# EAGLE library part 50208-004 (library con-aces-50208-series)
ACES CONNECTORS 50208 SERIES ACES Connecors 50208 <https://www.acesconn.com/tw/series/50208-xxxxx-xxx/1224>
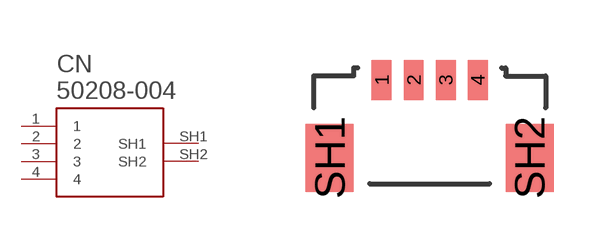
[diagram p0: symbol with the pads of 50208-004; footprint 50208-004]

Designator prefix CN

## 50208-004  [50208-004]
1  1
2  2
3  3
4  4
SH1  SH1
SH2  SH2

## Footprint 50208-004 (pad centres in mm)
smd 0.5 x 1: 1 -1.2,0; 2 -0.4,0; 3 0.4,0; 4 1.2,0
smd 1.2 x 1.7: SH1 -2.5,-1.95; SH2 2.5,-1.95